# EAGLE library part SPRING2X4 (library molex-spring)
Manufacturer Molex, LLC Manufacturer Part Number 0787328021 Description COMPRESSION CONN ASSY LCP 8CKT
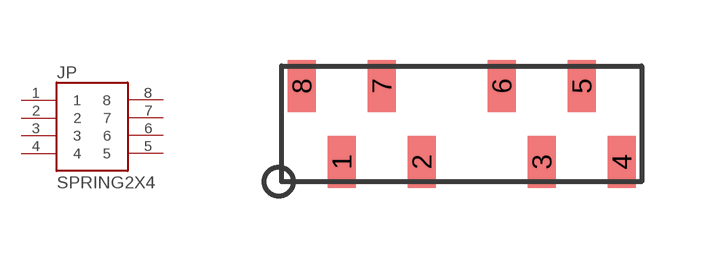
[diagram p0: symbol with the pads of 2X4_0787328021; footprint 2X4_0787328021]

Designator prefix JP

## SPRING2X4  [2X4_0787328021]
1  1
2  2
3  3
4  4
5  5
6  6
7  7
8  8

## Footprint 2X4_0787328021 (pad centres in mm)
smd 0.7 x 1.3: 1 -3,0.5; 2 -1,0.5; 3 2,0.5; 4 4,0.5; 5 3,2.4; 6 1,2.4; 7 -2,2.4; 8 -4,2.4